# EAGLE library part ATTINY84_14PINS_8BIT_8KB_20MHZ (library MrSwirlyEyes)
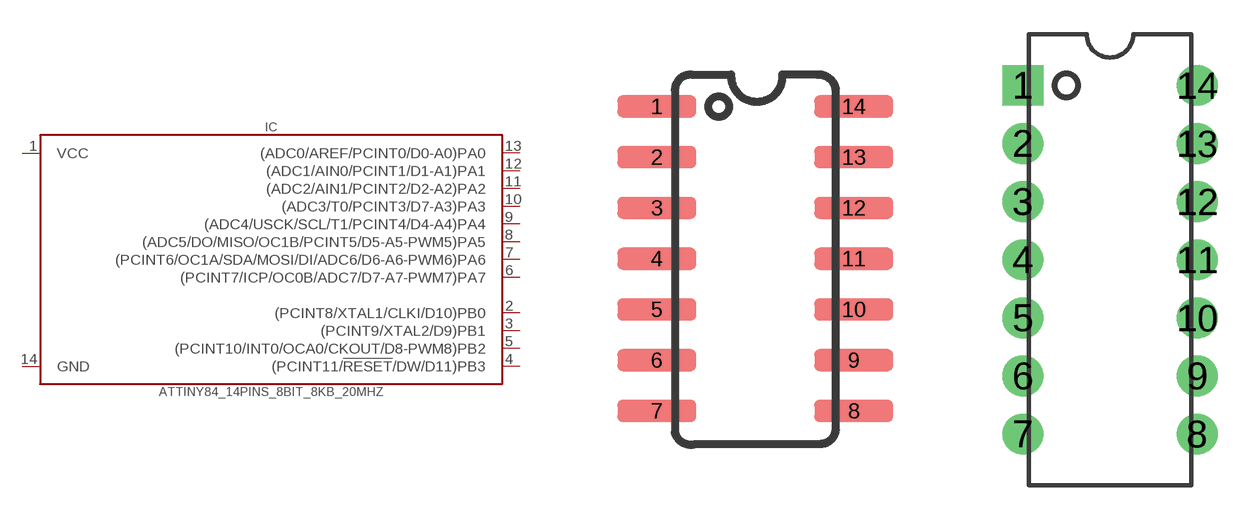
[diagram p4: symbol with the pads of SO-14; footprints SO-14, DIP-14]

Designator prefix IC

## ATTINY84_14PINS_8BIT_8KB_20MHZSO-14 (CREATOR: MrSwirlyEyes; DATASHEET: http://ww1.microchip.com/downloads/en/DeviceDoc/doc8183.pdf; DIST: Digikey; DISTLINK: https://www.digikey.com/products/en?keywords=ATTINY84A-SSU-ND; DISTPN: ATTINY84A-SSU-ND; MFR: Microchip Technology; MPN: ATTINY84A-SSU; TESTED: NO; VALUE: ATTINY84)  [SO-14]
1  VCC
2  (PCINT8/XTAL1/CLKI/D10)PB0
3  (PCINT9/XTAL2/D9)PB1
4  (PCINT11/!RESET!/DW/D11)PB3
5  (PCINT10/INT0/OCA0/CKOUT/D8-PWM8)PB2
6  (PCINT7/ICP/OC0B/ADC7/D7-A7-PWM7)PA7
7  (PCINT6/OC1A/SDA/MOSI/DI/ADC6/D6-A6-PWM6)PA6
8  (ADC5/DO/MISO/OC1B/PCINT5/D5-A5-PWM5)PA5
9  (ADC4/USCK/SCL/T1/PCINT4/D4-A4)PA4
10  (ADC3/T0/PCINT3/D7-A3)PA3
11  (ADC2/AIN1/PCINT2/D2-A2)PA2
12  (ADC1/AIN0/PCINT1/D1-A1)PA1
13  (ADC0/AREF/PCINT0/D0-A0)PA0
14  GND

## ATTINY84_14PINS_8BIT_8KB_20MHZDIP-14 (CREATOR: MrSwirlyEyes; DATASHEET: http://ww1.microchip.com/downloads/en/DeviceDoc/doc8183.pdf; DATASHEET_CONNECTOR: http://www.assmann-wsw.com/fileadmin/datasheets/ASS_0810_CO.pdf; DIST: Digikey; DISTLINK: https://www.digikey.com/products/en?keywords=ATTINY84A-PU-ND; DISTLINK_CONNECTOR: https://www.digikey.com/products/en?keywords=AE9989-ND; DISTPN: ATTINY84A-PU-ND; DISTPN_CONNECTOR: AE9989-ND; DIST_CONNECTOR: Digikey; MFR: Microchip Technology; MFR_CONNECTOR: Assmann WSW Components; MPN: ATTINY84A-PU; MPN_CONNECTOR: A 14-LC-TT; TESTED: NO; VALUE: ATTINY84)  [DIP-14]
Pads as for SO-14

## Footprint SO-14 (pad centres in mm)
smd 1.981 x 0.559: 1 -2.464,3.81; 2 -2.464,2.54; 3 -2.464,1.27; 4 -2.464,0; 5 -2.464,-1.27; 6 -2.464,-2.54; 7 -2.464,-3.81; 8 2.464,-3.81; 9 2.464,-2.54; 10 2.464,-1.27; 11 2.464,0; 12 2.464,1.27; 13 2.464,2.54; 14 2.464,3.81

## Footprint DIP-14 (pad centres in mm)
drill 0.813 pad 1.778 square: 1 -3.81,7.62
drill 0.813 pad 1.778: 2 -3.81,5.08; 3 -3.81,2.54; 4 -3.81,0; 5 -3.81,-2.54; 6 -3.81,-5.08; 7 -3.81,-7.62; 8 3.81,-7.62; 9 3.81,-5.08; 10 3.81,-2.54; 11 3.81,0; 12 3.81,2.54; 13 3.81,5.08; 14 3.81,7.62